# EAGLE library part 500SDP1S1M2QEQ (library switch-e-switch)
DPDT SLIDE SWITCH
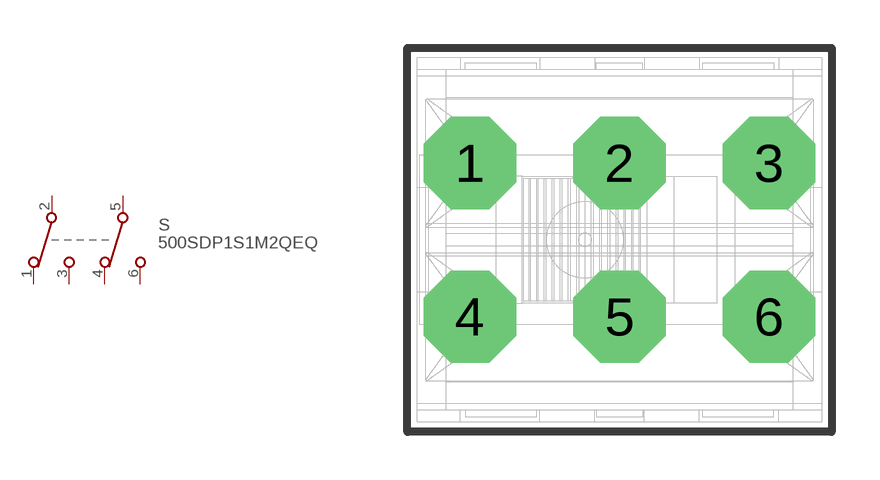
[diagram p16: symbol with the pads of 500SDP1S1M2QEQ; footprint 500SDP1S1M2QEQ]

Designator prefix S

## 500SDP1S1M2QEQ  [500SDP1S1M2QEQ]
1  1  pas
2  2  pas
3  3  pas
4  4  pas
5  5  pas
6  6  pas

## Footprint 500SDP1S1M2QEQ (pad centres in mm)
DPDT SLIDE SWITCH
drill 1.93 octagon: 1 -4.699,2.413; 2 0,2.413; 3 4.699,2.413; 4 -4.699,-2.413; 5 0,-2.413; 6 4.699,-2.413